# Altium schematic symbol library N_JFET.Schlib: 1 symbol
Pins are listed as number, name and electrical type; pins without a type are passive.

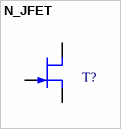
[diagram p0: symbol N_JFET]

## N_JFET
designator T?
N-Channel JFET
pins: D, G, S